# Altium schematic symbol library Inductor.SchLib: 3 symbols
Pins are listed as number, name and electrical type; pins without a type are passive.

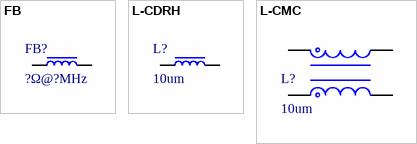
[diagram p0: symbols FB to L-CMC]

## FB
designator FB?, comment ?Ω@?MHz
磁珠
footprint FB 0402 (贴片磁珠)
footprint FB 0603 (贴片磁珠)
footprint FB 0805 (贴片磁珠)
pins: 1, 2

## L-CDRH
designator L?, comment 10um
功率屏蔽电感
footprint CDRH73 (7.3*7.3*3.4mm（长宽高）)
footprint CDRH74 (7.3*7.3*4.5mm（长宽高）)
footprint CDRH124 (12*12*4.5mm（长宽高）)
footprint CDRH125 (12*12*5mm（长宽高）)
footprint CDRH127 (12*12*8mm（长宽高）)
footprint CDRH129 (12*12*9.5mm（长宽高）)
footprint CDRH105 (10*10*5mm（长宽高）)
pins: 1, 2

## L-CMC
designator L?, comment 10um
共模电感
footprint SMTDRRI74P
footprint MSD1278
pins: 1, 2, 3, 4